# Altium integrated library Симисторы.IntLib: 3 symbols
Pins are listed as number, name and electrical type; pins without a type are passive.

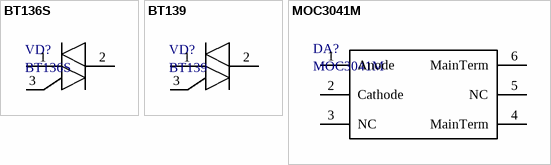
[diagram p0: symbols BT136S to MOC3041M]

## BT136S
designator VD?
BT136S-600D,118
footprint D-PAK
pins: 1 T1, 2 T2, 3 gate

## BT139
designator VD?
footprint TO-220
footprint TO-220 -H
pins: 1 T1, 2 T2, 3 gate

## MOC3041M
designator DA?
footprint DIP_6
pins: 1 Anode, 2 Cathode, 3 NC, 4 MainTerm, 5 NC, 6 MainTerm